# Altium schematic symbol library AB-Amplifier.SchLib: 18 symbols
Pins are listed as number, name and electrical type; pins without a type are passive.

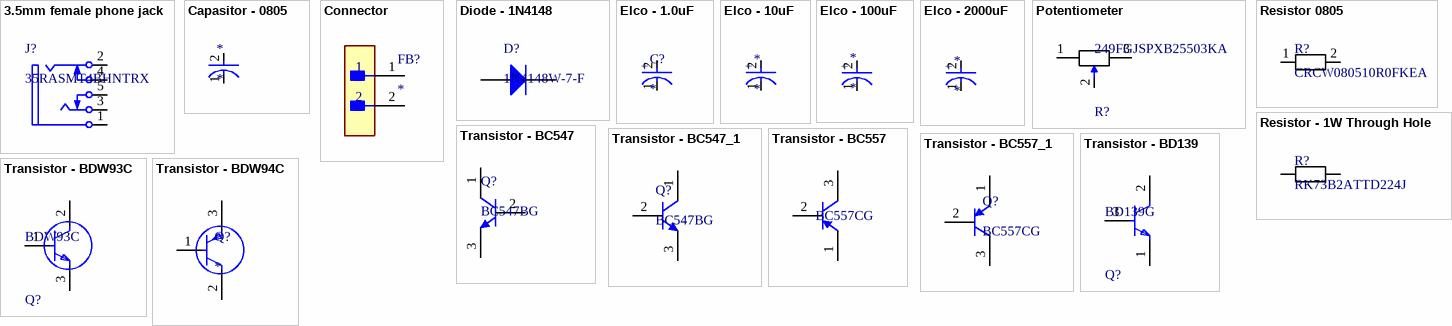
[diagram p0: symbols 3.5mm female phone jack to Transistor - BDW94C]

## 3.5mm female phone jack
designator J?, comment 35RASMT4BHNTRX
Female 3.5 mm Phone Jack, 5 Position, Height 5 mm, RoHS, Tape and Reel; Current Rating: 50 mA; Voltage Rating (DC): 12 V; ComponentLink1URL: http://www.switchcraft.com/; ComponentLink2Description: Datasheet; ComponentLink2URL: http://www.switchcraft.com/Drawings/35rasmt4bhntrx_cd.pdf; PackageDescription: Female 3.5 mm Phone Jack, 5 Position, Height 5 mm; PackageReference: 35RASMT4BHNTRX; Mount: Through Hole; DatasheetVersion: Rev. C, 07/2014; Contact Material: Silver; ComponentLink1Description: Manufacturer URL; Packaging: Tape and Reel; RoHSCompliant: true; Contact Plating: Silver; Package Quantity: 3000
footprint SWIT-35RASMT4BHNTRX_V (Jack, 5-Leads, Body 17x6mm)
pins: 1, 2, 3, 4, 5

## Capasitor - 0805
designator *
footprint 0805
pins: 1 C, 2 A

## Connector
designator FB?
Ferrite Bead; Manufacturer_Name: ABRACON; Manufacturer_Part_Number: ACML-0805-500-T; Datasheet Link: https://abracon.com/Magnetics/new/ACML-0805.pdf; Height: 1.05mm; Mouser Part Number: 815-ACML-0805-500T; Mouser Price/Stock: https://www.mouser.co.uk/ProductDetail/ABRACON/ACML-0805-500-T?qs=qw2lGDycG5tBjukxHQX6NA%3D%3D; Arrow Part Number: ACML-0805-500-T; Arrow Price/Stock: https://www.arrow.com/en/products/acml-0805-500-t/abracon
footprint Connector
pins: 1, 2

## Diode - 1N4148
designator D?, comment 1N4148W-7-F
Fast Switching Diode, 100 V, 0.15 A, -65 to 150 degC, 2-Pin?SOD123, RoHS, Tape and Reel; Recovery Time: 4ns; Brand: DiodesIncorporated; Unit Weight: 0.000353oz; Max Surge Current: 2A; Peak Reverse Voltage: 100V; Ir - Reverse Current: 1uA; Vf - Forward Voltage: 1.25V; Configuration: Single; If - Forward Current: 0.15A; Product Category: Diodes-GeneralPurpose,Power,Switching; Operating Temperature Range: -65Cto+150C; Packaging: Reel; Manufacturer URL: http://www.diodes.com/; Maximum Operating Temperature: +150C; Height: 1.25mm; Minimum Operating Temperature: -65C; Product: SwitchingDiodes; Package URL: http://www.diodes.com/datasheets/ds18004.pdf; Type: SwitchingDiode; Package Reference: SOD123-2; Width: 1.7mm; Datasheet URL: http://www.farnell.com/datasheets/1915529.pdf; Datasheet Version: Rev. 24-2, 10/2013; Series: 1N4148; Factory Pack Quantity: 3000; Length: 2.85mm; RoHS: True; Manufacturer: DiodesIncorporated; Mounting Style: SMD/SMT; Package / Case: SOD-123
footprint 1N4148
pins: 1 A, 2 K

## Elco - 1.0uF
designator C?
footprint 106CKR050M (10uF)
pins: 1 C, 2 A
text: +

## Elco - 10uF
designator *
footprint 106CKR050M (10uF)
pins: 1 C, 2 A
text: +

## Elco - 100uF
designator *
footprint 107CKR050M (100uF)
pins: 1 C, 2 A
text: +

## Elco - 2000uF
designator *
footprint 2200cap
pins: 1 C, 2 A
text: +

## Potentiometer
designator R?, comment 249FGJSPXB25503KA
249FGJSPXB25503KA Res Cermet POT 50K Ohm 20% 1W 1(Elec)/1(Mech)Turn 6.35mm Pin Panel Mount/Through Hole Bulk; NexarPartId: 42669055; Number of Turns: 1; Tolerance: 10%; Voltage Rating: 224V; Insulation Resistance: 1GΩ; Hole Diameter: 9.525mm; Resistance: 50kΩ; Temperature Coefficient: 100ppm/°C; RoHS: Compliant; Length: 12.7mm; Power Rating: 1W; Contact Plating: Tin; Min Operating Temperature: -55°C; Composition: Cermet, Potentiometer; Number of Gangs: 1; Max Operating Temperature: 125°C; Depth: 12.7mm; Termination: Pin; REACH SVHC: Unknown; Type: Potentiometer; Mount: Panel, Through Hole; Military Standard: Not; Height: 13.11mm; Width: 12.7mm
footprint Potentiometer 15mm
pins: 1, 2, 3

## Resistor 0805
designator R?, comment CRCW080510R0FKEA
Manufacturer: Vishay Dale; Part Number: CRCW080510R0FKEA
footprint 0805
pins: 1, 2
1 alternate drawing of the same symbol

## Resistor - 1W Through Hole
designator R?, comment RK73B2ATTD224J
Manufacturer: KOA Speer; Part Number: RK73B2ATTD224J
footprint 0.33 1W
pins: 1, 2
1 alternate drawing of the same symbol

## Transistor - BC547
designator Q?, comment BC547BG
Amplifier Transistor, NPN Silicon, 3-Pin TO-92, Pb-Free, Bulk Box; Manufacturer: On Semiconductor; IC Continuous (A): 0.1; fT Min (MHz): 150; Packing: Bulk Box; RoHS: TRUE; PackageVersion: Rev. AM; Mounting Technology: Through Hole; Polarity: NPN; PackageReference: TO-92-3-29-11_AM_SL; DatasheetVersion: Rev. 7; ComponentLink2URL: http://www.onsemi.com/pub_link/Collateral/BC546-D.PDF; ComponentLink1Description: Manufacturer URL; ComponentLink3URL: http://www.onsemi.cn/pub_link/Collateral/2N6426-D.PDF; PackageDescription: 3-Pin Transistor Outline, Body 4.825 x 3.685 mm, Pitch 1.27 mm; ComponentLink2Description: Datasheet; ComponentLink1URL: http://www.onsemi.com/; PartNumber: BC547BG; ComponentLink3Description: Package Specification
footprint BC547
pins: 1 C, 2 B, 3 E

## Transistor - BC547_1
designator Q?, comment BC547BG
Amplifier Transistor, NPN Silicon, 3-Pin TO-92, Pb-Free, Bulk Box; Manufacturer: On Semiconductor; IC Continuous (A): 0.1; fT Min (MHz): 150; Packing: Bulk Box; RoHS: TRUE; PackageVersion: Rev. AM; Mounting Technology: Through Hole; Polarity: NPN; PackageReference: TO-92-3-29-11_AM_SL; DatasheetVersion: Rev. 7; ComponentLink2URL: http://www.onsemi.com/pub_link/Collateral/BC546-D.PDF; ComponentLink1Description: Manufacturer URL; ComponentLink3URL: http://www.onsemi.cn/pub_link/Collateral/2N6426-D.PDF; PackageDescription: 3-Pin Transistor Outline, Body 4.825 x 3.685 mm, Pitch 1.27 mm; ComponentLink2Description: Datasheet; ComponentLink1URL: http://www.onsemi.com/; PartNumber: BC547BG; ComponentLink3Description: Package Specification
footprint BC547
pins: 1 C, 2 B, 3 E

## Transistor - BC557
designator ?, comment BC557CG
Amplifier Transistor, PNP Silicon, 3-Pin TO-92, Pb-Free, Bulk Box; Manufacturer: On Semiconductor; IC Continuous (A): -0.1; RoHS: TRUE; DatasheetVersion: Rev. 3; ComponentLink2Description: Datasheet; Packing: Bulk Box; PackageReference: TO-92-3-29-11_AM_SL; ComponentLink3URL: http://www.onsemi.cn/pub_link/Collateral/2N6426-D.PDF; ComponentLink2URL: http://www.onsemi.com/pub_link/Collateral/BC556B-D.PDF; PartNumber: BC557CG; PackageDescription: 3-Pin Transistor Outline, Body 4.825 x 3.685 mm, Pitch 1.27 mm; PackageVersion: Rev. AM; ComponentLink3Description: Package Specification; ComponentLink1URL: http://www.onsemi.com/; ComponentLink1Description: Manufacturer URL; Polarity: PNP; Mounting Technology: Through Hole
footprint BC557
pins: 1 E, 2 B, 3 C

## Transistor - BC557_1
designator Q?, comment BC557CG
Amplifier Transistor, PNP Silicon, 3-Pin TO-92, Pb-Free, Bulk Box; Manufacturer: On Semiconductor; IC Continuous (A): -0.1; RoHS: TRUE; DatasheetVersion: Rev. 3; ComponentLink2Description: Datasheet; Packing: Bulk Box; PackageReference: TO-92-3-29-11_AM_SL; ComponentLink3URL: http://www.onsemi.cn/pub_link/Collateral/2N6426-D.PDF; ComponentLink2URL: http://www.onsemi.com/pub_link/Collateral/BC556B-D.PDF; PartNumber: BC557CG; PackageDescription: 3-Pin Transistor Outline, Body 4.825 x 3.685 mm, Pitch 1.27 mm; PackageVersion: Rev. AM; ComponentLink3Description: Package Specification; ComponentLink1URL: http://www.onsemi.com/; ComponentLink1Description: Manufacturer URL; Polarity: PNP; Mounting Technology: Through Hole
footprint BC557
pins: 1 C, 2 B, 3 E

## Transistor - BD139
designator Q?, comment BD139G
NexarPartId: 354669; Manufacturer Lifecycle Status: ACTIVE; Collector Emitter Saturation Voltage: 500mV; Collector Emitter Breakdown Voltage: 80V; hFE Min: 25; Element Configuration: Single; Max Power Dissipation: 1.25W; Max Junction Temperature (Tj): 150°C; Emitter Base Voltage (VEBO): 5V; Max Collector Current: 1.5A; Number of Elements: 1; Polarity: NPN; Min Operating Temperature: -55°C; Max Operating Temperature: 150°C; Voltage Rating (DC): 80V; REACH SVHC: No SVHC; Radiation Hardening: No; Contact Plating: Tin; Schedule B: 8541290080, 8541290080|8541290080, 8541290080|8541290080|8541290080, 8541290080|8541290080|8541290080|8541290080; Number of Pins: 3; Case/Package: TO-225; Lifecycle Status: Production; Collector Base Voltage (VCBO): 80V; Weight: 4.535924g; Height: 11.04mm; RoHS: Compliant; Width: 2.66mm; Collector Emitter Voltage (VCEO): 80V; Lead Free: Lead Free; Current Rating: 1.5A; Power Dissipation: 1.25W; Packaging: Bulk; Length: 7.74mm
footprint BD139
pins: 1 E, 2 C, 3 B

## Transistor - BDW93C
designator Q?, comment BDW93C
BDW93C BDW93C Series 100 V 12 A 80 W NPN Darlington Transistor - TO-220-3; Manufacturer Lifecycle Status: LAST SHIPMENTS; NexarPartId: 84324666; Collector Emitter Breakdown Voltage: 100V; Emitter Base Voltage (VEBO): 12V; Max Collector Current: 12A; Element Configuration: Single; hFE Min: 750; Number of Elements: 1; Max Power Dissipation: 80W; Collector Emitter Saturation Voltage: 2V; Max Junction Temperature (Tj): 150°C; Radiation Hardening: No; Number of Pins: 3; RoHS: Compliant; Collector Base Voltage (VCBO): 100V; Length: 10.1mm; Max Operating Temperature: 150°C; Min Operating Temperature: -65°C; Case/Package: TO-220-3; Schedule B: 8541290080, 8541290080|8541290080, 8541290080|8541290080|8541290080, 8541290080|8541290080|8541290080|8541290080; REACH SVHC: No SVHC; Width: 4.7mm; Lifecycle Status: EOL; Polarity: NPN; Collector Emitter Voltage (VCEO): 100V; Contact Plating: Tin; Lead Free: Lead Free; Weight: 1.8g; Voltage Rating (DC): 100V; Height: 9.4mm; Mount: Through Hole; Current Rating: 12A; Power Dissipation: 80W; Packaging: Bulk
footprint BDW94C
pins: 1 B, 2 C, 3 E

## Transistor - BDW94C
designator Q?
Transistor BJT PNP; Manufacturer_Name: STMicroelectronics; Manufacturer_Part_Number: BDW94C; Datasheet Link: http://www.st.com/web/en/resource/technical/document/datasheet/CD00000925.pdf; Height: 4.6mm; Mouser Part Number: 511-BDW94C; Mouser Price/Stock: https://www.mouser.co.uk/ProductDetail/STMicroelectronics/BDW94C?qs=ljbEvF4DwOM3QQOPDay3pQ%3D%3D; Arrow Part Number: BDW94C; Arrow Price/Stock: https://www.arrow.com/en/products/bdw94c/stmicroelectronics?utm_currency=USD&region=nac
footprint BDW94C
pins: 1 B, 2 C, 3 E